# EAGLE library part M04X2 (library work)
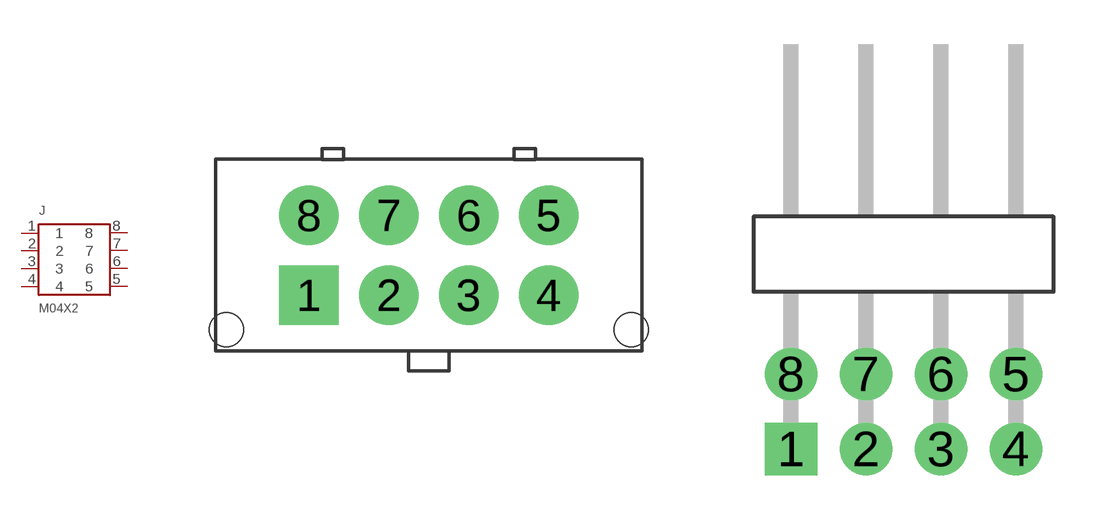
[diagram p35: symbol with the pads of M04X2-FLOW_CONTROLER; footprints M04X2-FLOW_CONTROLER, M04X2_HORIZ]

Designator prefix J

## M04X2-MFC  [M04X2-FLOW_CONTROLER]
1  1
2  2
3  3
4  4
5  5
6  6
7  7
8  8

## M04X2-HORIZ  [M04X2_HORIZ]
Pads as for M04X2-FLOW_CONTROLER

## Footprint M04X2-FLOW_CONTROLER (pad centres in mm)
drill 1.191 pad 2.207 square: 1 -4.465,-1.488
drill 1.191 pad 2.207: 2 -1.488,-1.488; 3 1.488,-1.488; 4 4.465,-1.488; 5 4.465,1.488; 6 1.488,1.488; 7 -1.488,1.488; 8 -4.465,1.488
hole 1.27 at -7.541,-2.778
hole 1.27 at 7.541,-2.778

## Footprint M04X2_HORIZ (pad centres in mm)
drill 1.016 pad 1.778 square: 1 -3.81,-6.35
drill 1.016 pad 1.778: 2 -1.27,-6.35; 3 1.27,-6.35; 4 3.81,-6.35; 5 3.81,-3.81; 6 1.27,-3.81; 7 -1.27,-3.81; 8 -3.81,-3.81